# Altium schematic symbol library Schlib1.SchLib: 3 symbols
Pins are listed as number, name and electrical type; pins without a type are passive.

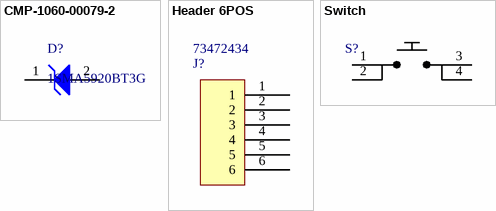
[diagram p0: symbols CMP-1060-00079-2 to Switch]

## CMP-1060-00079-2
designator D?, comment 1SMA5920BT3G
1.5 W Zener Voltage Regulator, 2-Pin SMA, Pb-Free, Tape and Reel; Manufacturer: On Semiconductor; Value: 6.2V Zener; VZ Typ (V): 6.2; ComponentLink2Description: Datasheet; ComponentLink3Description: Package Specification; RoHS: Pb-Free; Mounting Technology: Surface Mount; PackageDescription: 2-Pin Small Molded Package, J-Bend Lead, Body 2.605 x 4.315 mm; PackageVersion: Rev. F, 11/2008; ComponentLink1Description: Manufacturer URL; ComponentLink1URL: http://www.onsemi.com/; PackageReference: SMA-2-403D-02_F; DatasheetVersion: Rev. 8; Packing: Tape and Reel; ComponentLink3URL: http://www.onsemi.com/pub_link/Collateral/1SMA5913BT3-D.PDF; ComponentLink2URL: http://www.onsemi.com/pub_link/Collateral/1SMA5913BT3-D.PDF; PartNumber: 1SMA5920BT3G
footprint ONSC-SMA-2-403D-02_F_V (Footprint not found)
pins: 1 K, 2 A

## Header 6POS
designator J?  Supplier Part Number 1: 73472434  (hidden comment: Header 6POS)
Supplier 1: Allied Electronics
footprint Header 6POS
pins: 1, 2, 3, 4, 5, 6

## Switch
designator S?  (value not drawn)
Supplier 1: Newark; Supplier Part Number 1: 84Y2774
footprint E-Switch TL3305
pins: 1, 2, 3, 4